# Altium integrated library PrechargeRelay.IntLib: 1 symbol
Pins are listed as number, name and electrical type; pins without a type are passive.

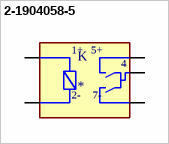
[diagram p0: symbol 2-1904058-5]

## 2-1904058-5
designator K
Electromechanical Relay 12VDC 50Ohm 20A SPST-NO-DM_25.55x20.7x19.3_mm THT Automotive Relay Automotive; MP: 2-1904058-5; MF: TE Connectivity; EU_RoHS_Compliance: Compliant; SnapEDA_Link: https://www.snapeda.com/parts/2-1904058-5/TE%20Connectivity%20Potter%20%26%20Brumfield%20Relays/view-part/2403564/?ref=snap; Digi-Key_Purchase_URL: https://www.digikey.com/product-detail/en/te-connectivity-potter-brumfield-relays/2-1904058-5/PB1975-ND/4168711?utm_source=snapeda&utm_medium=aggregator&utm_campaign=symbol; Package: None; TE_purchase_URL: https://www.te.com/usa-en/product-2-1904058-5.html?te_bu=Cor&te_type=disp&te_campaign=seda_glo_cor-seda-global-disp-prtnr-fy19-seda-model-bom-cta_sma-317_1&elqCampaignId=32493; Value: *; Digi-Key_Part_Number: PB1975-ND
footprint RELAY_2-1904058-5
pins: 1 1+, 2 2-, 4, 5 5+, 7 7-